# EAGLE library part AD622 (library custom_parts)
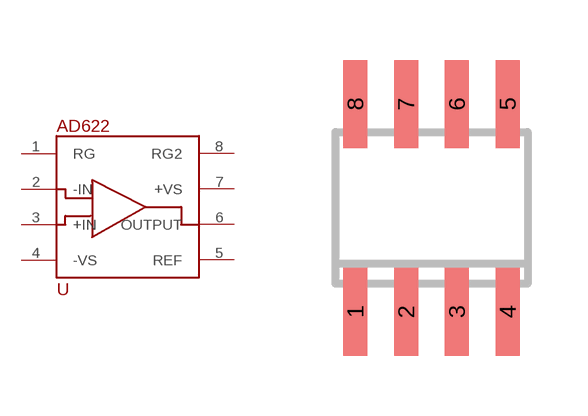
[diagram p8: symbol with the pads of SOIC8; footprint SOIC8]

Designator prefix -

## AD622  [SOIC8]
1  RG
2  -IN
3  +IN
4  -VS
5  REF
6  OUTPUT
7  +VS
8  RG2

## Footprint SOIC8 (pad centres in mm)
Small Outline IC
smd 0.6 x 2.2: 1 -1.905,-2.6; 2 -0.635,-2.6; 3 0.635,-2.6; 4 1.905,-2.6; 5 1.905,2.6; 6 0.635,2.6; 7 -0.635,2.6; 8 -1.905,2.6